# Altium schematic symbol library HV_MOSFET(IPB200N253N3).SchLib: 1 symbol
Pins are listed as number, name and electrical type; pins without a type are passive.

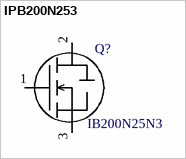
[diagram p0: symbol IPB200N253]

## IPB200N253
designator Q?, comment IB200N25N3
ComponentLink1Description: Mouser Part; ComponentLink1URL: https://www.mouser.com/ProductDetail/Infineon-Technologies/IPB200N25N3-G?qs=sGAEpiMZZMshyDBzk1%2fWi5eGkr%252bPRUK3FK%2fjPTagUYc%3d
footprint Model Name (Footprint not found)
pins: 1 Gate, 2 D, 3 Source